# Altium schematic symbol library XTAL-SMD.SchLib: 1 symbol
Pins are listed as number, name and electrical type; pins without a type are passive.

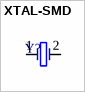
[diagram p0: symbol XTAL-SMD]

## XTAL-SMD
designator Y?  (value not drawn)
pins: 1 OSC1, 2 OSC2